# Altium integrated library Analog Devices Data Converters Analog-to-Digital Converters.IntLib: 2404 symbols (part 291 of 346)
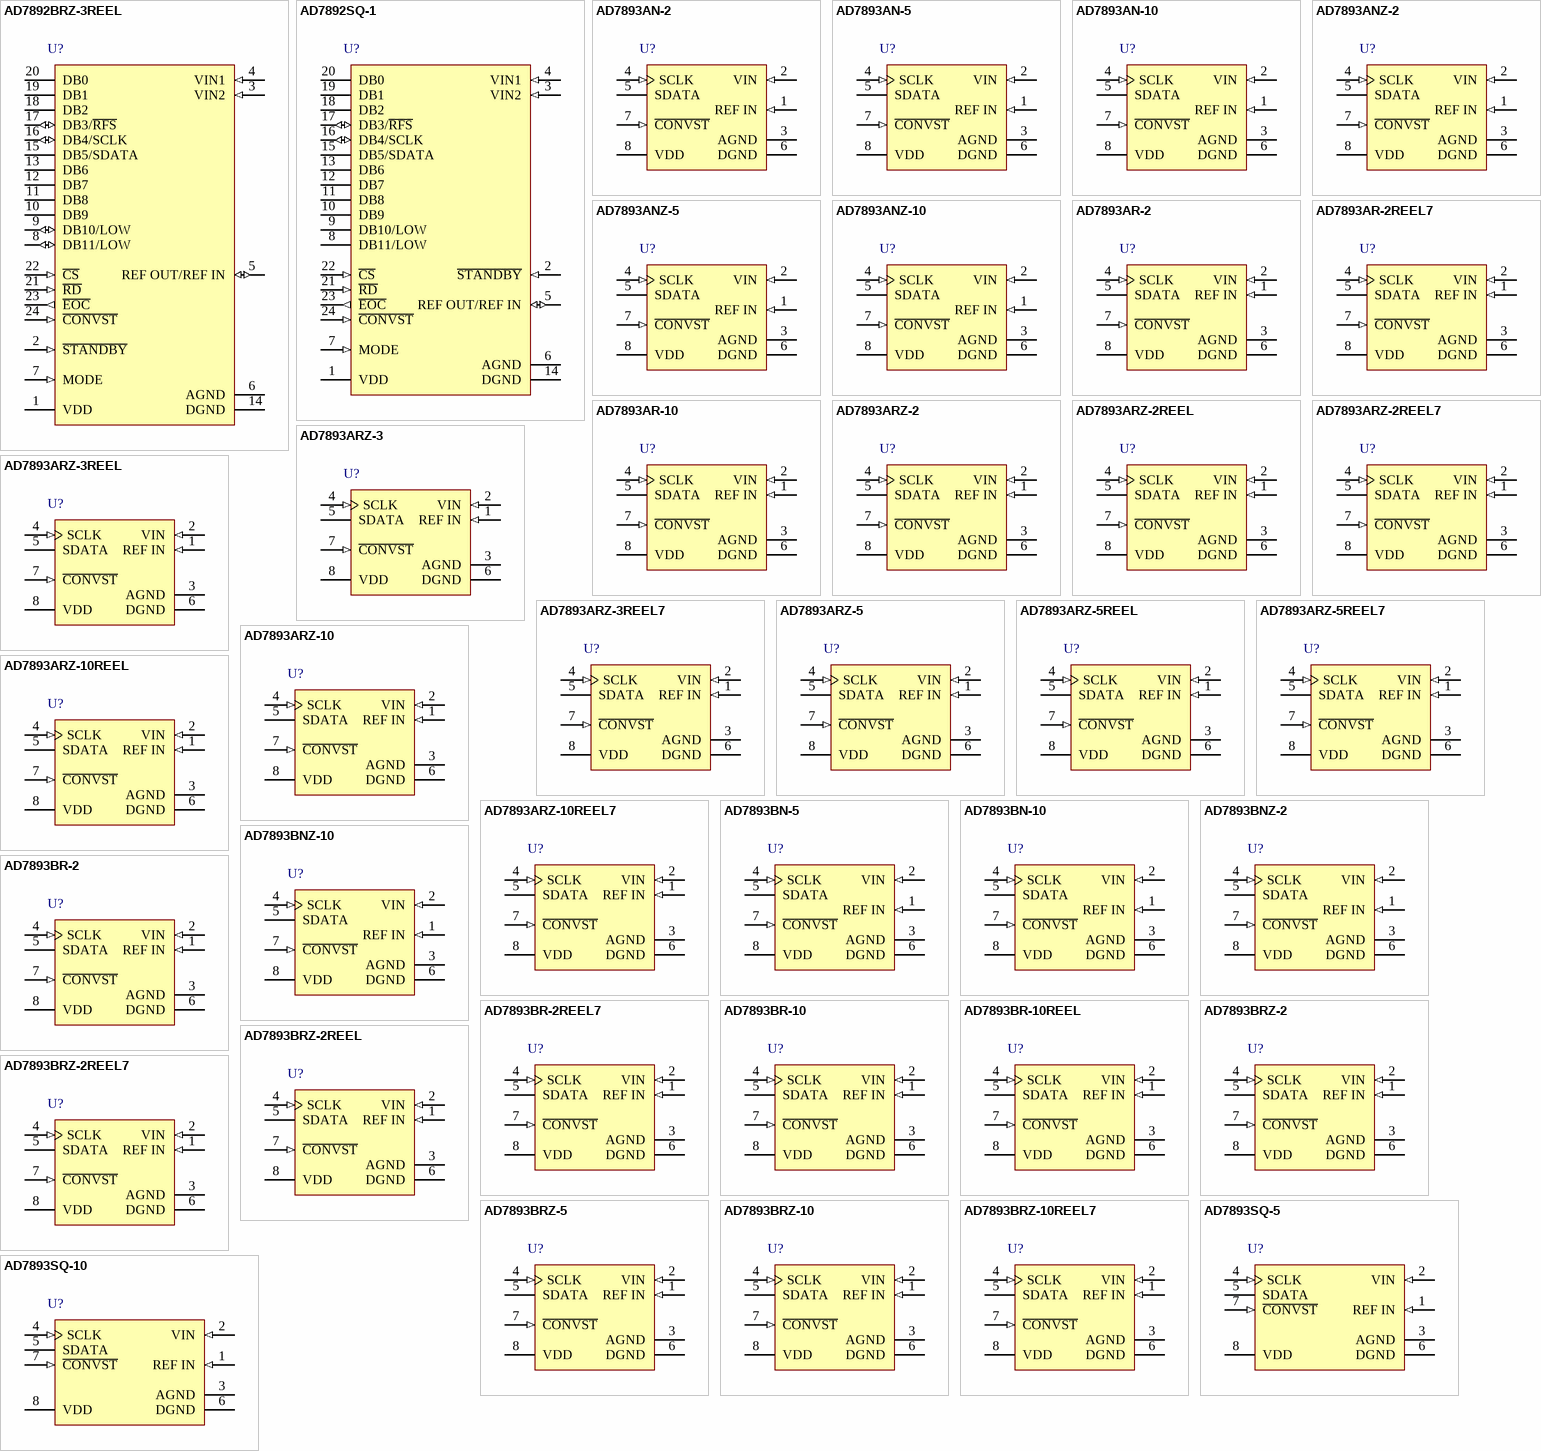
[diagram p311: symbols AD7892BRZ-3REEL to AD7893SQ-10]

## AD7893BN-5
designator U?
Single 12-Bit Analog-to-Digital Converter with Serial Interface, 6 us, LC2MOS, 117KSPS, -40 to +85 degC, N-8, Tube; Generic Part Number: AD7893; Manufacturer: Analog Devices; PartNumber: AD7893BN-5; Resolution (Bits): 12; Channels: 1; Throughput Rate (SPS): 117K; Interface: Ser; DatasheetVersion: Rev.E; PackageVersion: 070606-A; PackageReference: N-8; PackageDescription: 8-Lead Plastic Dual In-Line Package [PDIP] Narrow Body; Supplier 1: Mouser; Supplier Part Number 1: N/A; RoHS: N; Packing: Tube; Mounting Technology: Through-hole; Code_JEDEC: MS-001; ComponentLink1Description: Manufacturer URL; ComponentLink1URL: http://www.analog.com/en/index.html; ComponentLink2Description: Datasheet; ComponentLink2URL: http://www.analog.com/static/imported-files/data_sheets/AD7893.pdf; ComponentLink3Description: Package Specification; ComponentLink3URL: http://www.analog.com/static/imported-files/packages/PKG_PDF/PDIP(N)/N_8.pdf; ComponentLink4Description: Product URL; ComponentLink4URL: http://www.analog.com/en/analog-to-digital-converters/ad-converters/ad7893/products/product.html
footprint N-8 (DIP, 8-Leads, Row Spacing 7.62mm, Pitch 2.54mm, Body 9.6x6.6mm)
pins: 1 REF IN (in) "Voltage Reference Input. An external reference source should be connected to this pin to provide the reference voltage for the AD7893conversion process. The REF IN input is buffered on-chip. The nominal reference voltage (See Datasheet)", 2 VIN (in) "Analog Input Channel. The analog input range is +/-10 V (AD7893-10), +/-2.5 V (AD7893-3), 0 V to +5 V (AD7893-5) and 0 V to +2.5 V (AD7893-2).", 3 AGND (power) "Analog Ground. Ground reference for track/hold, comparator and DAC.", 4 SCLK (in) "Serial Clock Input. An external serial clock is applied to this input to obtain serial data from the AD7893. A new serial data bit is clocked out on the rising edge of this serial clock, and data is valid on the falling edge.(See Datasheet)", 5 SDATA (hiz) "Serial Data Output. Serial data from the AD7893 is provided at this output. The serial data is clocked out by the rising edge of SCLK and is valid on the falling edge of SCLK. Sixteen bits of serial data are provided with (See Datasheet)", 6 DGND (power) "Digital Ground. Ground reference for digital circuitry.", 7 ~{CONVST} (in) "Convert Start. Edge-triggered logic input. On the falling edge of this input, the serial clock counter is reset to zero. On the rising edge of this input, the track/hold goes into its hold mode and conversion is initiated.", 8 VDD (power) "Positive supply voltage, +5 V +/- 5%."

## AD7893BN-10
designator U?
Single 12-Bit Analog-to-Digital Converter with Serial Interface, 6 us, LC2MOS, 117KSPS, 0 to +70 degC, N-8, Tube; Generic Part Number: AD7893; Manufacturer: Analog Devices; PartNumber: AD7893BN-10; Resolution (Bits): 12; Channels: 1; Throughput Rate (SPS): 117K; Interface: Ser; DatasheetVersion: Rev.E; PackageVersion: 070606-A; PackageReference: N-8; PackageDescription: 8-Lead Plastic Dual In-Line Package [PDIP] Narrow Body; Supplier 1: Digi-Key; Supplier Part Number 1: AD7893BN-10-ND; Supplier 2: Mouser; Supplier Part Number 2: 584-AD7893BN-10; RoHS: N; Packing: Tube; Mounting Technology: Through-hole; Code_JEDEC: MS-001; ComponentLink1Description: Manufacturer URL; ComponentLink1URL: http://www.analog.com/en/index.html; ComponentLink2Description: Datasheet; ComponentLink2URL: http://www.analog.com/static/imported-files/data_sheets/AD7893.pdf; ComponentLink3Description: Package Specification; ComponentLink3URL: http://www.analog.com/static/imported-files/packages/PKG_PDF/PDIP(N)/N_8.pdf; ComponentLink4Description: Product URL; ComponentLink4URL: http://www.analog.com/en/analog-to-digital-converters/ad-converters/ad7893/products/product.html
footprint N-8 (DIP, 8-Leads, Row Spacing 7.62mm, Pitch 2.54mm, Body 9.6x6.6mm)
pins: 1 REF IN (in) "Voltage Reference Input. An external reference source should be connected to this pin to provide the reference voltage for the AD7893conversion process. The REF IN input is buffered on-chip. The nominal reference voltage (See Datasheet)", 2 VIN (in) "Analog Input Channel. The analog input range is +/-10 V (AD7893-10), +/-2.5 V (AD7893-3), 0 V to +5 V (AD7893-5) and 0 V to +2.5 V (AD7893-2).", 3 AGND (power) "Analog Ground. Ground reference for track/hold, comparator and DAC.", 4 SCLK (in) "Serial Clock Input. An external serial clock is applied to this input to obtain serial data from the AD7893. A new serial data bit is clocked out on the rising edge of this serial clock, and data is valid on the falling edge.(See Datasheet)", 5 SDATA (hiz) "Serial Data Output. Serial data from the AD7893 is provided at this output. The serial data is clocked out by the rising edge of SCLK and is valid on the falling edge of SCLK. Sixteen bits of serial data are provided with (See Datasheet)", 6 DGND (power) "Digital Ground. Ground reference for digital circuitry.", 7 ~{CONVST} (in) "Convert Start. Edge-triggered logic input. On the falling edge of this input, the serial clock counter is reset to zero. On the rising edge of this input, the track/hold goes into its hold mode and conversion is initiated.", 8 VDD (power) "Positive supply voltage, +5 V +/- 5%."

## AD7893BNZ-2
designator U?
Single 12-Bit Analog-to-Digital Converter with Serial Interface, 6 us, LC2MOS, 117KSPS, -40 to +85 degC, N-8, Pb-Free, Tube; Generic Part Number: AD7893; Manufacturer: Analog Devices; PartNumber: AD7893BNZ-2; Resolution (Bits): 12; Channels: 1; Throughput Rate (SPS): 117K; Interface: Ser; DatasheetVersion: Rev.E; PackageVersion: 070606-A; PackageReference: N-8; PackageDescription: 8-Lead Plastic Dual In-Line Package [PDIP] Narrow Body; Supplier 1: Digi-Key; Supplier Part Number 1: AD7893BNZ-2-ND; Supplier 2: Mouser; Supplier Part Number 2: 584-AD7893BNZ-2; RoHS: Y; Packing: Tube; Mounting Technology: Through-hole; Code_JEDEC: MS-001; ComponentLink1Description: Manufacturer URL; ComponentLink1URL: http://www.analog.com/en/index.html; ComponentLink2Description: Datasheet; ComponentLink2URL: http://www.analog.com/static/imported-files/data_sheets/AD7893.pdf; ComponentLink3Description: Package Specification; ComponentLink3URL: http://www.analog.com/static/imported-files/packages/PKG_PDF/PDIP(N)/N_8.pdf; ComponentLink4Description: Product URL; ComponentLink4URL: http://www.analog.com/en/analog-to-digital-converters/ad-converters/ad7893/products/product.html
footprint N-8 (DIP, 8-Leads, Row Spacing 7.62mm, Pitch 2.54mm, Body 9.6x6.6mm)
pins: 1 REF IN (in) "Voltage Reference Input. An external reference source should be connected to this pin to provide the reference voltage for the AD7893conversion process. The REF IN input is buffered on-chip. The nominal reference voltage (See Datasheet)", 2 VIN (in) "Analog Input Channel. The analog input range is +/-10 V (AD7893-10), +/-2.5 V (AD7893-3), 0 V to +5 V (AD7893-5) and 0 V to +2.5 V (AD7893-2).", 3 AGND (power) "Analog Ground. Ground reference for track/hold, comparator and DAC.", 4 SCLK (in) "Serial Clock Input. An external serial clock is applied to this input to obtain serial data from the AD7893. A new serial data bit is clocked out on the rising edge of this serial clock, and data is valid on the falling edge.(See Datasheet)", 5 SDATA (hiz) "Serial Data Output. Serial data from the AD7893 is provided at this output. The serial data is clocked out by the rising edge of SCLK and is valid on the falling edge of SCLK. Sixteen bits of serial data are provided with (See Datasheet)", 6 DGND (power) "Digital Ground. Ground reference for digital circuitry.", 7 ~{CONVST} (in) "Convert Start. Edge-triggered logic input. On the falling edge of this input, the serial clock counter is reset to zero. On the rising edge of this input, the track/hold goes into its hold mode and conversion is initiated.", 8 VDD (power) "Positive supply voltage, +5 V +/- 5%."

## AD7893BNZ-10
designator U?
Single 12-Bit Analog-to-Digital Converter with Serial Interface, 6 us, LC2MOS, 117KSPS, 0 to +70 degC, N-8, Pb-Free, Tube; Generic Part Number: AD7893; Manufacturer: Analog Devices; PartNumber: AD7893BNZ-10; Resolution (Bits): 12; Channels: 1; Throughput Rate (SPS): 117K; Interface: Ser; DatasheetVersion: Rev.E; PackageVersion: 070606-A; PackageReference: N-8; PackageDescription: 8-Lead Plastic Dual In-Line Package [PDIP] Narrow Body; Supplier 1: Digi-Key; Supplier Part Number 1: AD7893BNZ-10-ND; Supplier 2: Mouser; Supplier Part Number 2: 584-AD7893BNZ-10; RoHS: Y; Packing: Tube; Mounting Technology: Through-hole; Code_JEDEC: MS-001; ComponentLink1Description: Manufacturer URL; ComponentLink1URL: http://www.analog.com/en/index.html; ComponentLink2Description: Datasheet; ComponentLink2URL: http://www.analog.com/static/imported-files/data_sheets/AD7893.pdf; ComponentLink3Description: Package Specification; ComponentLink3URL: http://www.analog.com/static/imported-files/packages/PKG_PDF/PDIP(N)/N_8.pdf; ComponentLink4Description: Product URL; ComponentLink4URL: http://www.analog.com/en/analog-to-digital-converters/ad-converters/ad7893/products/product.html
footprint N-8 (DIP, 8-Leads, Row Spacing 7.62mm, Pitch 2.54mm, Body 9.6x6.6mm)
pins: 1 REF IN (in) "Voltage Reference Input. An external reference source should be connected to this pin to provide the reference voltage for the AD7893conversion process. The REF IN input is buffered on-chip. The nominal reference voltage (See Datasheet)", 2 VIN (in) "Analog Input Channel. The analog input range is +/-10 V (AD7893-10), +/-2.5 V (AD7893-3), 0 V to +5 V (AD7893-5) and 0 V to +2.5 V (AD7893-2).", 3 AGND (power) "Analog Ground. Ground reference for track/hold, comparator and DAC.", 4 SCLK (in) "Serial Clock Input. An external serial clock is applied to this input to obtain serial data from the AD7893. A new serial data bit is clocked out on the rising edge of this serial clock, and data is valid on the falling edge.(See Datasheet)", 5 SDATA (hiz) "Serial Data Output. Serial data from the AD7893 is provided at this output. The serial data is clocked out by the rising edge of SCLK and is valid on the falling edge of SCLK. Sixteen bits of serial data are provided with (See Datasheet)", 6 DGND (power) "Digital Ground. Ground reference for digital circuitry.", 7 ~{CONVST} (in) "Convert Start. Edge-triggered logic input. On the falling edge of this input, the serial clock counter is reset to zero. On the rising edge of this input, the track/hold goes into its hold mode and conversion is initiated.", 8 VDD (power) "Positive supply voltage, +5 V +/- 5%."

## AD7893BR-2
designator U?
Single 12-Bit Analog-to-Digital Converter with Serial Interface, 6 us, LC2MOS, 117KSPS, 0 to +70 degC, R-8, Tube; Generic Part Number: AD7893; Manufacturer: Analog Devices; PartNumber: AD7893BR-2; Resolution (Bits): 12; Channels: 1; Throughput Rate (SPS): 117K; Interface: Ser; DatasheetVersion: Rev.E; PackageVersion: 060506-A; PackageReference: R-8; PackageDescription: 8-Lead Standard Small Outline Package [SOIC_N] Narrow Body; Supplier 1: Digi-Key; Supplier Part Number 1: AD7893BR-2-ND; Supplier 2: Mouser; Supplier Part Number 2: 584-AD7893BR-2; RoHS: N; Packing: Tube; Mounting Technology: Surface Mount; Code_JEDEC: MS-012-AA; Code_IPC: SOIC127P600-8; ComponentLink1Description: Manufacturer URL; ComponentLink1URL: http://www.analog.com/en/index.html; ComponentLink2Description: Datasheet; ComponentLink2URL: http://www.analog.com/static/imported-files/data_sheets/AD7893.pdf; ComponentLink3Description: Package Specification; ComponentLink3URL: http://www.analog.com/static/imported-files/packages/PKG_PDF/SOIC_Narrow%20(R)/R_8.pdf; ComponentLink4Description: Product URL; ComponentLink4URL: http://www.analog.com/en/analog-to-digital-converters/ad-converters/ad7893/products/product.html
footprint R-8_N (SOIC, 8-Leads, Body 4.9x3.9mm, Pitch 1.27mm, IPC Medium Density)
footprint R-8_L (SOIC, 8-Leads, Body 4.9x3.9mm, Pitch 1.27mm, IPC High Density)
footprint R-8_M (SOIC, 8-Leads, Body 4.9x3.9mm, Pitch 1.27mm, IPC Low Density)
pins: 1 REF IN (in) "Voltage Reference Input. An external reference source should be connected to this pin to provide the reference voltage for the AD7893’s conversion process. The REF IN input is buffered on-chip. The nominal reference voltage (See Datasheet)", 2 VIN (in) "Analog Input Channel. The analog input range is +/-10 V (AD7893-10), +/-2.5 V (AD7893-3), 0 V to +5 V (AD7893-5) and 0 V to +2.5 V (AD7893-2).", 3 AGND (power) "Analog Ground. Ground reference for track/hold, comparator and DAC", 4 SCLK (in) "Serial Clock Input. An external serial clock is applied to this input to obtain serial data from the AD7893. A new serial data bit is clocked out on the rising edge of this serial clock, and data is valid on the falling edge.(See Datasheet)", 5 SDATA (hiz) "Serial Data Output. Serial data from the AD7893 is provided at this output. The serial data is clocked out by the rising edge of SCLK and is valid on the falling edge of SCLK. Sixteen bits of serial data are provided with (See Datasheet)", 6 DGND (power) "Digital Ground. Ground reference for digital circuitry.", 7 ~{CONVST} (in) "Convert Start. Edge-triggered logic input. On the falling edge of this input, the serial clock counter is reset to zero. On the rising edge of this input, the track/hold goes into its hold mode and conversion is initiated.", 8 VDD (power) "Positive supply voltage, +5 V +/- 5%"

## AD7893BR-2REEL7
designator U?
Single 12-Bit Analog-to-Digital Converter with Serial Interface, 6 us, LC2MOS, 117KSPS, 0 to +70 degC, R-8, Reel; Generic Part Number: AD7893; Manufacturer: Analog Devices; PartNumber: AD7893BR-2REEL7; Resolution (Bits): 12; Channels: 1; Throughput Rate (SPS): 117K; Interface: Ser; DatasheetVersion: Rev.E; PackageVersion: 060506-A; PackageReference: R-8; PackageDescription: 8-Lead Standard Small Outline Package [SOIC_N] Narrow Body; Supplier 1: Digi-Key; Supplier Part Number 1: AD7893BR-2REEL7-ND; Supplier 2: Mouser; Supplier Part Number 2: 584-AD7893BR-2R7; RoHS: N; Packing: Reel; Mounting Technology: Surface Mount; Code_JEDEC: MS-012-AA; Code_IPC: SOIC127P600-8; ComponentLink1Description: Manufacturer URL; ComponentLink1URL: http://www.analog.com/en/index.html; ComponentLink2Description: Datasheet; ComponentLink2URL: http://www.analog.com/static/imported-files/data_sheets/AD7893.pdf; ComponentLink3Description: Package Specification; ComponentLink3URL: http://www.analog.com/static/imported-files/packages/PKG_PDF/SOIC_Narrow%20(R)/R_8.pdf; ComponentLink4Description: Product URL; ComponentLink4URL: http://www.analog.com/en/analog-to-digital-converters/ad-converters/ad7893/products/product.html
footprint R-8_N (SOIC, 8-Leads, Body 4.9x3.9mm, Pitch 1.27mm, IPC Medium Density)
footprint R-8_L (SOIC, 8-Leads, Body 4.9x3.9mm, Pitch 1.27mm, IPC High Density)
footprint R-8_M (SOIC, 8-Leads, Body 4.9x3.9mm, Pitch 1.27mm, IPC Low Density)
pins: 1 REF IN (in) "Voltage Reference Input. An external reference source should be connected to this pin to provide the reference voltage for the AD7893’s conversion process. The REF IN input is buffered on-chip. The nominal reference voltage (See Datasheet)", 2 VIN (in) "Analog Input Channel. The analog input range is +/-10 V (AD7893-10), +/-2.5 V (AD7893-3), 0 V to +5 V (AD7893-5) and 0 V to +2.5 V (AD7893-2).", 3 AGND (power) "Analog Ground. Ground reference for track/hold, comparator and DAC", 4 SCLK (in) "Serial Clock Input. An external serial clock is applied to this input to obtain serial data from the AD7893. A new serial data bit is clocked out on the rising edge of this serial clock, and data is valid on the falling edge.(See Datasheet)", 5 SDATA (hiz) "Serial Data Output. Serial data from the AD7893 is provided at this output. The serial data is clocked out by the rising edge of SCLK and is valid on the falling edge of SCLK. Sixteen bits of serial data are provided with (See Datasheet)", 6 DGND (power) "Digital Ground. Ground reference for digital circuitry.", 7 ~{CONVST} (in) "Convert Start. Edge-triggered logic input. On the falling edge of this input, the serial clock counter is reset to zero. On the rising edge of this input, the track/hold goes into its hold mode and conversion is initiated.", 8 VDD (power) "Positive supply voltage, +5 V +/- 5%"

## AD7893BR-10
designator U?
Single 12-Bit Analog-to-Digital Converter with Serial Interface, 6 us, LC2MOS, 117KSPS, 0 to +70 degC, R-8, Tube; Generic Part Number: AD7893; Manufacturer: Analog Devices; PartNumber: AD7893BR-10; Resolution (Bits): 12; Channels: 1; Throughput Rate (SPS): 117K; Interface: Ser; DatasheetVersion: Rev.E; PackageVersion: 060506-A; PackageReference: R-8; PackageDescription: 8-Lead Standard Small Outline Package [SOIC_N] Narrow Body; Supplier 1: Digi-Key; Supplier Part Number 1: AD7893BR-10-ND; Supplier 2: Newark; Supplier Part Number 2: 34C4936; Supplier 3: Mouser; Supplier Part Number 3: 584-AD7893BR-10; RoHS: N; Packing: Tube; Mounting Technology: Surface Mount; Code_JEDEC: MS-012-AA; Code_IPC: SOIC127P600-8; ComponentLink1Description: Manufacturer URL; ComponentLink1URL: http://www.analog.com/en/index.html; ComponentLink2Description: Datasheet; ComponentLink2URL: http://www.analog.com/static/imported-files/data_sheets/AD7893.pdf; ComponentLink3Description: Package Specification; ComponentLink3URL: http://www.analog.com/static/imported-files/packages/PKG_PDF/SOIC_Narrow%20(R)/R_8.pdf; ComponentLink4Description: Product URL; ComponentLink4URL: http://www.analog.com/en/analog-to-digital-converters/ad-converters/ad7893/products/product.html
footprint R-8_N (SOIC, 8-Leads, Body 4.9x3.9mm, Pitch 1.27mm, IPC Medium Density)
footprint R-8_L (SOIC, 8-Leads, Body 4.9x3.9mm, Pitch 1.27mm, IPC High Density)
footprint R-8_M (SOIC, 8-Leads, Body 4.9x3.9mm, Pitch 1.27mm, IPC Low Density)
pins: 1 REF IN (in) "Voltage Reference Input. An external reference source should be connected to this pin to provide the reference voltage for the AD7893’s conversion process. The REF IN input is buffered on-chip. The nominal reference voltage (See Datasheet)", 2 VIN (in) "Analog Input Channel. The analog input range is +/-10 V (AD7893-10), +/-2.5 V (AD7893-3), 0 V to +5 V (AD7893-5) and 0 V to +2.5 V (AD7893-2).", 3 AGND (power) "Analog Ground. Ground reference for track/hold, comparator and DAC", 4 SCLK (in) "Serial Clock Input. An external serial clock is applied to this input to obtain serial data from the AD7893. A new serial data bit is clocked out on the rising edge of this serial clock, and data is valid on the falling edge.(See Datasheet)", 5 SDATA (hiz) "Serial Data Output. Serial data from the AD7893 is provided at this output. The serial data is clocked out by the rising edge of SCLK and is valid on the falling edge of SCLK. Sixteen bits of serial data are provided with (See Datasheet)", 6 DGND (power) "Digital Ground. Ground reference for digital circuitry.", 7 ~{CONVST} (in) "Convert Start. Edge-triggered logic input. On the falling edge of this input, the serial clock counter is reset to zero. On the rising edge of this input, the track/hold goes into its hold mode and conversion is initiated.", 8 VDD (power) "Positive supply voltage, +5 V +/- 5%"

## AD7893BR-10REEL
designator U?
Single 12-Bit Analog-to-Digital Converter with Serial Interface, 6 us, LC2MOS, 117KSPS, 0 to +70 degC, R-8, Reel; Generic Part Number: AD7893; Manufacturer: Analog Devices; PartNumber: AD7893BR-10REEL; Resolution (Bits): 12; Channels: 1; Throughput Rate (SPS): 117K; Interface: Ser; DatasheetVersion: Rev.E; PackageVersion: 060506-A; PackageReference: R-8; PackageDescription: 8-Lead Standard Small Outline Package [SOIC_N] Narrow Body; Supplier 1: Digi-Key; Supplier Part Number 1: AD7893BR-10REEL-ND; Supplier 2: Mouser; Supplier Part Number 2: 584-AD7893BR-10R; RoHS: N; Packing: Reel; Mounting Technology: Surface Mount; Code_JEDEC: MS-012-AA; Code_IPC: SOIC127P600-8; ComponentLink1Description: Manufacturer URL; ComponentLink1URL: http://www.analog.com/en/index.html; ComponentLink2Description: Datasheet; ComponentLink2URL: http://www.analog.com/static/imported-files/data_sheets/AD7893.pdf; ComponentLink3Description: Package Specification; ComponentLink3URL: http://www.analog.com/static/imported-files/packages/PKG_PDF/SOIC_Narrow%20(R)/R_8.pdf; ComponentLink4Description: Product URL; ComponentLink4URL: http://www.analog.com/en/analog-to-digital-converters/ad-converters/ad7893/products/product.html
footprint R-8_N (SOIC, 8-Leads, Body 4.9x3.9mm, Pitch 1.27mm, IPC Medium Density)
footprint R-8_L (SOIC, 8-Leads, Body 4.9x3.9mm, Pitch 1.27mm, IPC High Density)
footprint R-8_M (SOIC, 8-Leads, Body 4.9x3.9mm, Pitch 1.27mm, IPC Low Density)
pins: 1 REF IN (in) "Voltage Reference Input. An external reference source should be connected to this pin to provide the reference voltage for the AD7893’s conversion process. The REF IN input is buffered on-chip. The nominal reference voltage (See Datasheet)", 2 VIN (in) "Analog Input Channel. The analog input range is +/-10 V (AD7893-10), +/-2.5 V (AD7893-3), 0 V to +5 V (AD7893-5) and 0 V to +2.5 V (AD7893-2).", 3 AGND (power) "Analog Ground. Ground reference for track/hold, comparator and DAC", 4 SCLK (in) "Serial Clock Input. An external serial clock is applied to this input to obtain serial data from the AD7893. A new serial data bit is clocked out on the rising edge of this serial clock, and data is valid on the falling edge.(See Datasheet)", 5 SDATA (hiz) "Serial Data Output. Serial data from the AD7893 is provided at this output. The serial data is clocked out by the rising edge of SCLK and is valid on the falling edge of SCLK. Sixteen bits of serial data are provided with (See Datasheet)", 6 DGND (power) "Digital Ground. Ground reference for digital circuitry.", 7 ~{CONVST} (in) "Convert Start. Edge-triggered logic input. On the falling edge of this input, the serial clock counter is reset to zero. On the rising edge of this input, the track/hold goes into its hold mode and conversion is initiated.", 8 VDD (power) "Positive supply voltage, +5 V +/- 5%"

## AD7893BRZ-2
designator U?
Single 12-Bit Analog-to-Digital Converter with Serial Interface, 6 us, LC2MOS, 117KSPS, 0 to +70 degC, R-8, Pb-Free, Tube; Generic Part Number: AD7893; Manufacturer: Analog Devices; PartNumber: AD7893BRZ-2; Resolution (Bits): 12; Channels: 1; Throughput Rate (SPS): 117K; Interface: Ser; DatasheetVersion: Rev.E; PackageVersion: 060506-A; PackageReference: R-8; PackageDescription: 8-Lead Standard Small Outline Package [SOIC_N] Narrow Body; Supplier 1: Digi-Key; Supplier Part Number 1: AD7893BRZ-2-ND; Supplier 2: Mouser; Supplier Part Number 2: 584-AD7893BRZ-2; RoHS: Y; Packing: Tube; Mounting Technology: Surface Mount; Code_JEDEC: MS-012-AA; Code_IPC: SOIC127P600-8; ComponentLink1Description: Manufacturer URL; ComponentLink1URL: http://www.analog.com/en/index.html; ComponentLink2Description: Datasheet; ComponentLink2URL: http://www.analog.com/static/imported-files/data_sheets/AD7893.pdf; ComponentLink3Description: Package Specification; ComponentLink3URL: http://www.analog.com/static/imported-files/packages/PKG_PDF/SOIC_Narrow%20(R)/R_8.pdf; ComponentLink4Description: Product URL; ComponentLink4URL: http://www.analog.com/en/analog-to-digital-converters/ad-converters/ad7893/products/product.html
footprint R-8_N (SOIC, 8-Leads, Body 4.9x3.9mm, Pitch 1.27mm, IPC Medium Density)
footprint R-8_L (SOIC, 8-Leads, Body 4.9x3.9mm, Pitch 1.27mm, IPC High Density)
footprint R-8_M (SOIC, 8-Leads, Body 4.9x3.9mm, Pitch 1.27mm, IPC Low Density)
pins: 1 REF IN (in) "Voltage Reference Input. An external reference source should be connected to this pin to provide the reference voltage for the AD7893’s conversion process. The REF IN input is buffered on-chip. The nominal reference voltage (See Datasheet)", 2 VIN (in) "Analog Input Channel. The analog input range is +/-10 V (AD7893-10), +/-2.5 V (AD7893-3), 0 V to +5 V (AD7893-5) and 0 V to +2.5 V (AD7893-2).", 3 AGND (power) "Analog Ground. Ground reference for track/hold, comparator and DAC", 4 SCLK (in) "Serial Clock Input. An external serial clock is applied to this input to obtain serial data from the AD7893. A new serial data bit is clocked out on the rising edge of this serial clock, and data is valid on the falling edge.(See Datasheet)", 5 SDATA (hiz) "Serial Data Output. Serial data from the AD7893 is provided at this output. The serial data is clocked out by the rising edge of SCLK and is valid on the falling edge of SCLK. Sixteen bits of serial data are provided with (See Datasheet)", 6 DGND (power) "Digital Ground. Ground reference for digital circuitry.", 7 ~{CONVST} (in) "Convert Start. Edge-triggered logic input. On the falling edge of this input, the serial clock counter is reset to zero. On the rising edge of this input, the track/hold goes into its hold mode and conversion is initiated.", 8 VDD (power) "Positive supply voltage, +5 V +/- 5%"

## AD7893BRZ-2REEL
designator U?
Single 12-Bit Analog-to-Digital Converter with Serial Interface, 6 us, LC2MOS, 117KSPS, 0 to +70 degC, R-8, Pb-Free, Reel; Generic Part Number: AD7893; Manufacturer: Analog Devices; PartNumber: AD7893BRZ-2REEL; Resolution (Bits): 12; Channels: 1; Throughput Rate (SPS): 117K; Interface: Ser; DatasheetVersion: Rev.E; PackageVersion: 060506-A; PackageReference: R-8; PackageDescription: 8-Lead Standard Small Outline Package [SOIC_N] Narrow Body; Supplier 1: Digi-Key; Supplier Part Number 1: AD7893BRZ-2REEL-ND; Supplier 2: Mouser; Supplier Part Number 2: 584-AD7893BRZ-2R; RoHS: Y; Packing: Reel; Mounting Technology: Surface Mount; Code_JEDEC: MS-012-AA; Code_IPC: SOIC127P600-8; ComponentLink1Description: Manufacturer URL; ComponentLink1URL: http://www.analog.com/en/index.html; ComponentLink2Description: Datasheet; ComponentLink2URL: http://www.analog.com/static/imported-files/data_sheets/AD7893.pdf; ComponentLink3Description: Package Specification; ComponentLink3URL: http://www.analog.com/static/imported-files/packages/PKG_PDF/SOIC_Narrow%20(R)/R_8.pdf; ComponentLink4Description: Product URL; ComponentLink4URL: http://www.analog.com/en/analog-to-digital-converters/ad-converters/ad7893/products/product.html
footprint R-8_N (SOIC, 8-Leads, Body 4.9x3.9mm, Pitch 1.27mm, IPC Medium Density)
footprint R-8_L (SOIC, 8-Leads, Body 4.9x3.9mm, Pitch 1.27mm, IPC High Density)
footprint R-8_M (SOIC, 8-Leads, Body 4.9x3.9mm, Pitch 1.27mm, IPC Low Density)
pins: 1 REF IN (in) "Voltage Reference Input. An external reference source should be connected to this pin to provide the reference voltage for the AD7893’s conversion process. The REF IN input is buffered on-chip. The nominal reference voltage (See Datasheet)", 2 VIN (in) "Analog Input Channel. The analog input range is +/-10 V (AD7893-10), +/-2.5 V (AD7893-3), 0 V to +5 V (AD7893-5) and 0 V to +2.5 V (AD7893-2).", 3 AGND (power) "Analog Ground. Ground reference for track/hold, comparator and DAC", 4 SCLK (in) "Serial Clock Input. An external serial clock is applied to this input to obtain serial data from the AD7893. A new serial data bit is clocked out on the rising edge of this serial clock, and data is valid on the falling edge.(See Datasheet)", 5 SDATA (hiz) "Serial Data Output. Serial data from the AD7893 is provided at this output. The serial data is clocked out by the rising edge of SCLK and is valid on the falling edge of SCLK. Sixteen bits of serial data are provided with (See Datasheet)", 6 DGND (power) "Digital Ground. Ground reference for digital circuitry.", 7 ~{CONVST} (in) "Convert Start. Edge-triggered logic input. On the falling edge of this input, the serial clock counter is reset to zero. On the rising edge of this input, the track/hold goes into its hold mode and conversion is initiated.", 8 VDD (power) "Positive supply voltage, +5 V +/- 5%"

## AD7893BRZ-2REEL7
designator U?
Single 12-Bit Analog-to-Digital Converter with Serial Interface, 6 us, LC2MOS, 117KSPS, 0 to +70 degC, R-8, Pb-Free, Reel; Generic Part Number: AD7893; Manufacturer: Analog Devices; PartNumber: AD7893BRZ-2REEL7; Resolution (Bits): 12; Channels: 1; Throughput Rate (SPS): 117K; Interface: Ser; DatasheetVersion: Rev.E; PackageVersion: 060506-A; PackageReference: R-8; PackageDescription: 8-Lead Standard Small Outline Package [SOIC_N] Narrow Body; Supplier 1: Digi-Key; Supplier Part Number 1: AD7893BRZ-2REEL7-ND; RoHS: Y; Packing: Reel; Mounting Technology: Surface Mount; Code_JEDEC: MS-012-AA; Code_IPC: SOIC127P600-8; ComponentLink1Description: Manufacturer URL; ComponentLink1URL: http://www.analog.com/en/index.html; ComponentLink2Description: Datasheet; ComponentLink2URL: http://www.analog.com/static/imported-files/data_sheets/AD7893.pdf; ComponentLink3Description: Package Specification; ComponentLink3URL: http://www.analog.com/static/imported-files/packages/PKG_PDF/SOIC_Narrow%20(R)/R_8.pdf; ComponentLink4Description: Product URL; ComponentLink4URL: http://www.analog.com/en/analog-to-digital-converters/ad-converters/ad7893/products/product.html
footprint R-8_N (SOIC, 8-Leads, Body 4.9x3.9mm, Pitch 1.27mm, IPC Medium Density)
footprint R-8_L (SOIC, 8-Leads, Body 4.9x3.9mm, Pitch 1.27mm, IPC High Density)
footprint R-8_M (SOIC, 8-Leads, Body 4.9x3.9mm, Pitch 1.27mm, IPC Low Density)
pins: 1 REF IN (in) "Voltage Reference Input. An external reference source should be connected to this pin to provide the reference voltage for the AD7893’s conversion process. The REF IN input is buffered on-chip. The nominal reference voltage (See Datasheet)", 2 VIN (in) "Analog Input Channel. The analog input range is +/-10 V (AD7893-10), +/-2.5 V (AD7893-3), 0 V to +5 V (AD7893-5) and 0 V to +2.5 V (AD7893-2).", 3 AGND (power) "Analog Ground. Ground reference for track/hold, comparator and DAC", 4 SCLK (in) "Serial Clock Input. An external serial clock is applied to this input to obtain serial data from the AD7893. A new serial data bit is clocked out on the rising edge of this serial clock, and data is valid on the falling edge.(See Datasheet)", 5 SDATA (hiz) "Serial Data Output. Serial data from the AD7893 is provided at this output. The serial data is clocked out by the rising edge of SCLK and is valid on the falling edge of SCLK. Sixteen bits of serial data are provided with (See Datasheet)", 6 DGND (power) "Digital Ground. Ground reference for digital circuitry.", 7 ~{CONVST} (in) "Convert Start. Edge-triggered logic input. On the falling edge of this input, the serial clock counter is reset to zero. On the rising edge of this input, the track/hold goes into its hold mode and conversion is initiated.", 8 VDD (power) "Positive supply voltage, +5 V +/- 5%"

## AD7893BRZ-5
designator U?
Single 12-Bit Analog-to-Digital Converter with Serial Interface, 6 us, LC2MOS, 117KSPS, 0 to +70 degC, R-8, Pb-Free, Tube; Generic Part Number: AD7893; Manufacturer: Analog Devices; PartNumber: AD7893BRZ-5; Resolution (Bits): 12; Channels: 1; Throughput Rate (SPS): 117K; Interface: Ser; DatasheetVersion: Rev.E; PackageVersion: 060506-A; PackageReference: R-8; PackageDescription: 8-Lead Standard Small Outline Package [SOIC_N] Narrow Body; Supplier 1: Digi-Key; Supplier Part Number 1: AD7893BRZ-5-ND; Supplier 2: Mouser; Supplier Part Number 2: 584-AD7893BRZ-5; RoHS: Y; Packing: Tube; Mounting Technology: Surface Mount; Code_JEDEC: MS-012-AA; Code_IPC: SOIC127P600-8; ComponentLink1Description: Manufacturer URL; ComponentLink1URL: http://www.analog.com/en/index.html; ComponentLink2Description: Datasheet; ComponentLink2URL: http://www.analog.com/static/imported-files/data_sheets/AD7893.pdf; ComponentLink3Description: Package Specification; ComponentLink3URL: http://www.analog.com/static/imported-files/packages/PKG_PDF/SOIC_Narrow%20(R)/R_8.pdf; ComponentLink4Description: Product URL; ComponentLink4URL: http://www.analog.com/en/analog-to-digital-converters/ad-converters/ad7893/products/product.html
footprint R-8_N (SOIC, 8-Leads, Body 4.9x3.9mm, Pitch 1.27mm, IPC Medium Density)
footprint R-8_L (SOIC, 8-Leads, Body 4.9x3.9mm, Pitch 1.27mm, IPC High Density)
footprint R-8_M (SOIC, 8-Leads, Body 4.9x3.9mm, Pitch 1.27mm, IPC Low Density)
pins: 1 REF IN (in) "Voltage Reference Input. An external reference source should be connected to this pin to provide the reference voltage for the AD7893’s conversion process. The REF IN input is buffered on-chip. The nominal reference voltage (See Datasheet)", 2 VIN (in) "Analog Input Channel. The analog input range is +/-10 V (AD7893-10), +/-2.5 V (AD7893-3), 0 V to +5 V (AD7893-5) and 0 V to +2.5 V (AD7893-2).", 3 AGND (power) "Analog Ground. Ground reference for track/hold, comparator and DAC", 4 SCLK (in) "Serial Clock Input. An external serial clock is applied to this input to obtain serial data from the AD7893. A new serial data bit is clocked out on the rising edge of this serial clock, and data is valid on the falling edge.(See Datasheet)", 5 SDATA (hiz) "Serial Data Output. Serial data from the AD7893 is provided at this output. The serial data is clocked out by the rising edge of SCLK and is valid on the falling edge of SCLK. Sixteen bits of serial data are provided with (See Datasheet)", 6 DGND (power) "Digital Ground. Ground reference for digital circuitry.", 7 ~{CONVST} (in) "Convert Start. Edge-triggered logic input. On the falling edge of this input, the serial clock counter is reset to zero. On the rising edge of this input, the track/hold goes into its hold mode and conversion is initiated.", 8 VDD (power) "Positive supply voltage, +5 V +/- 5%"

## AD7893BRZ-10
designator U?
Single 12-Bit Analog-to-Digital Converter with Serial Interface, 6 us, LC2MOS, 117KSPS, 0 to +70 degC, R-8, Pb-Free, Tube; Generic Part Number: AD7893; Manufacturer: Analog Devices; PartNumber: AD7893BRZ-10; Resolution (Bits): 12; Channels: 1; Throughput Rate (SPS): 117K; Interface: Ser; DatasheetVersion: Rev.E; PackageVersion: 060506-A; PackageReference: R-8; PackageDescription: 8-Lead Standard Small Outline Package [SOIC_N] Narrow Body; Supplier 1: Digi-Key; Supplier Part Number 1: AD7893BRZ-10-ND; Supplier 2: Mouser; Supplier Part Number 2: 584-AD7893BRZ-10; RoHS: Y; Packing: Tube; Mounting Technology: Surface Mount; Code_JEDEC: MS-012-AA; Code_IPC: SOIC127P600-8; ComponentLink1Description: Manufacturer URL; ComponentLink1URL: http://www.analog.com/en/index.html; ComponentLink2Description: Datasheet; ComponentLink2URL: http://www.analog.com/static/imported-files/data_sheets/AD7893.pdf; ComponentLink3Description: Package Specification; ComponentLink3URL: http://www.analog.com/static/imported-files/packages/PKG_PDF/SOIC_Narrow%20(R)/R_8.pdf; ComponentLink4Description: Product URL; ComponentLink4URL: http://www.analog.com/en/analog-to-digital-converters/ad-converters/ad7893/products/product.html
footprint R-8_N (SOIC, 8-Leads, Body 4.9x3.9mm, Pitch 1.27mm, IPC Medium Density)
footprint R-8_L (SOIC, 8-Leads, Body 4.9x3.9mm, Pitch 1.27mm, IPC High Density)
footprint R-8_M (SOIC, 8-Leads, Body 4.9x3.9mm, Pitch 1.27mm, IPC Low Density)
pins: 1 REF IN (in) "Voltage Reference Input. An external reference source should be connected to this pin to provide the reference voltage for the AD7893’s conversion process. The REF IN input is buffered on-chip. The nominal reference voltage (See Datasheet)", 2 VIN (in) "Analog Input Channel. The analog input range is +/-10 V (AD7893-10), +/-2.5 V (AD7893-3), 0 V to +5 V (AD7893-5) and 0 V to +2.5 V (AD7893-2).", 3 AGND (power) "Analog Ground. Ground reference for track/hold, comparator and DAC", 4 SCLK (in) "Serial Clock Input. An external serial clock is applied to this input to obtain serial data from the AD7893. A new serial data bit is clocked out on the rising edge of this serial clock, and data is valid on the falling edge.(See Datasheet)", 5 SDATA (hiz) "Serial Data Output. Serial data from the AD7893 is provided at this output. The serial data is clocked out by the rising edge of SCLK and is valid on the falling edge of SCLK. Sixteen bits of serial data are provided with (See Datasheet)", 6 DGND (power) "Digital Ground. Ground reference for digital circuitry.", 7 ~{CONVST} (in) "Convert Start. Edge-triggered logic input. On the falling edge of this input, the serial clock counter is reset to zero. On the rising edge of this input, the track/hold goes into its hold mode and conversion is initiated.", 8 VDD (power) "Positive supply voltage, +5 V +/- 5%"

## AD7893BRZ-10REEL7
designator U?
Single 12-Bit Analog-to-Digital Converter with Serial Interface, 6 us, LC2MOS, 117KSPS, 0 to +70 degC, R-8, Pb-Free, Reel; Generic Part Number: AD7893; Manufacturer: Analog Devices; PartNumber: AD7893BRZ-10REEL7; Resolution (Bits): 12; Channels: 1; Throughput Rate (SPS): 117K; Interface: Ser; DatasheetVersion: Rev.E; PackageVersion: 060506-A; PackageReference: R-8; PackageDescription: 8-Lead Standard Small Outline Package [SOIC_N] Narrow Body; Supplier 1: Digi-Key; Supplier Part Number 1: AD7893BRZ-10REEL7-ND; Supplier 2: Mouser; Supplier Part Number 2: 584-AD7893BRZ-10R7; RoHS: Y; Packing: Reel; Mounting Technology: Surface Mount; Code_JEDEC: MS-012-AA; Code_IPC: SOIC127P600-8; ComponentLink1Description: Manufacturer URL; ComponentLink1URL: http://www.analog.com/en/index.html; ComponentLink2Description: Datasheet; ComponentLink2URL: http://www.analog.com/static/imported-files/data_sheets/AD7893.pdf; ComponentLink3Description: Package Specification; ComponentLink3URL: http://www.analog.com/static/imported-files/packages/PKG_PDF/SOIC_Narrow%20(R)/R_8.pdf; ComponentLink4Description: Product URL; ComponentLink4URL: http://www.analog.com/en/analog-to-digital-converters/ad-converters/ad7893/products/product.html
footprint R-8_N (SOIC, 8-Leads, Body 4.9x3.9mm, Pitch 1.27mm, IPC Medium Density)
footprint R-8_L (SOIC, 8-Leads, Body 4.9x3.9mm, Pitch 1.27mm, IPC High Density)
footprint R-8_M (SOIC, 8-Leads, Body 4.9x3.9mm, Pitch 1.27mm, IPC Low Density)
pins: 1 REF IN (in) "Voltage Reference Input. An external reference source should be connected to this pin to provide the reference voltage for the AD7893’s conversion process. The REF IN input is buffered on-chip. The nominal reference voltage (See Datasheet)", 2 VIN (in) "Analog Input Channel. The analog input range is +/-10 V (AD7893-10), +/-2.5 V (AD7893-3), 0 V to +5 V (AD7893-5) and 0 V to +2.5 V (AD7893-2).", 3 AGND (power) "Analog Ground. Ground reference for track/hold, comparator and DAC", 4 SCLK (in) "Serial Clock Input. An external serial clock is applied to this input to obtain serial data from the AD7893. A new serial data bit is clocked out on the rising edge of this serial clock, and data is valid on the falling edge.(See Datasheet)", 5 SDATA (hiz) "Serial Data Output. Serial data from the AD7893 is provided at this output. The serial data is clocked out by the rising edge of SCLK and is valid on the falling edge of SCLK. Sixteen bits of serial data are provided with (See Datasheet)", 6 DGND (power) "Digital Ground. Ground reference for digital circuitry.", 7 ~{CONVST} (in) "Convert Start. Edge-triggered logic input. On the falling edge of this input, the serial clock counter is reset to zero. On the rising edge of this input, the track/hold goes into its hold mode and conversion is initiated.", 8 VDD (power) "Positive supply voltage, +5 V +/- 5%"

## AD7893SQ-5
designator U?
Single 12-Bit Analog-to-Digital Converter with Serial Interface, 6 us, LC2MOS, 117KSPS, -55 to +125 degC, Q-8, Tube; Generic Part Number: AD7893; Manufacturer: Analog Devices; PartNumber: AD7893SQ-5; Resolution (Bits): 12; Channels: 1; Throughput Rate (SPS): 117K; Interface: Ser; DatasheetVersion: Rev.E; PackageVersion: 2005; PackageReference: Q-8; PackageDescription: 8-Lead Ceramic Dual In-Line Package [CERDIP]; Supplier 1: Digi-Key; Supplier Part Number 1: AD7893SQ-5-ND; Supplier 2: Newark; Supplier Part Number 2: 09B6272; Supplier 3: Mouser; Supplier Part Number 3: 584-AD7893SQ-5; RoHS: N; Packing: Tube; Mounting Technology: Through-hole; ComponentLink1Description: Manufacturer URL; ComponentLink1URL: http://www.analog.com/en/index.html; ComponentLink2Description: Datasheet; ComponentLink2URL: http://www.analog.com/static/imported-files/data_sheets/AD7893.pdf; ComponentLink3Description: Package Specification; ComponentLink3URL: http://www.analog.com/static/imported-files/packages/3925655241313314758Q_8.pdf; ComponentLink4Description: Product URL; ComponentLink4URL: http://www.analog.com/en/analog-to-digital-converters/ad-converters/ad7893/products/product.html
footprint Q-8 (DIP, 8-Leads, Row Spacing 7.62mm, Pitch 2.54mm, Body 9.9x6.7mm)
pins: 1 REF IN (in) "Voltage Reference Input. An external reference source should be connected to this pin to provide the reference voltage for the AD7893’s conversion process. The REF IN input is buffered on-chip. The nominal reference voltage (See Datasheet)", 2 VIN (in) "Analog Input Channel. The analog input range is +/-10 V (AD7893-10), +/-2.5 V (AD7893-3), 0 V to +5 V (AD7893-5) and 0 V to +2.5 V (AD7893-2).", 3 AGND (power) "Analog Ground. Ground reference for track/hold, comparator and DAC", 4 SCLK (in) "Serial Clock Input. An external serial clock is applied to this input to obtain serial data from the AD7893. A new serial data bit is clocked out on the rising edge of this serial clock, and data is valid on the falling edge.(See Datasheet)", 5 SDATA (hiz) "Serial Data Output. Serial data from the AD7893 is provided at this output. The serial data is clocked out by the rising edge of SCLK and is valid on the falling edge of SCLK. Sixteen bits of serial data are provided with (See Datasheet)", 6 DGND (power) "Digital Ground. Ground reference for digital circuitry.", 7 ~{CONVST} (in) "Convert Start. Edge-triggered logic input. On the falling edge of this input, the serial clock counter is reset to zero. On the rising edge of this input, the track/hold goes into its hold mode and conversion is initiated.", 8 VDD (power) "Positive supply voltage, +5 V +/- 5%."

## AD7893SQ-10
designator U?
Single 12-Bit Analog-to-Digital Converter with Serial Interface, 6 us, LC2MOS, 117KSPS, -55 to +125 degC, Q-8, Tube; Generic Part Number: AD7893; Manufacturer: Analog Devices; PartNumber: AD7893SQ-10; Resolution (Bits): 12; Channels: 1; Throughput Rate (SPS): 117K; Interface: Ser; DatasheetVersion: Rev.E; PackageVersion: 2005; PackageReference: Q-8; PackageDescription: 8-Lead Ceramic Dual In-Line Package [CERDIP]; Supplier 1: Digi-Key; Supplier Part Number 1: AD7893SQ-10-ND; Supplier 2: Newark; Supplier Part Number 2: 09B6270; Supplier 3: Mouser; Supplier Part Number 3: 584-AD7893SQ-10; RoHS: N; Packing: Tube; Mounting Technology: Through-hole; ComponentLink1Description: Manufacturer URL; ComponentLink1URL: http://www.analog.com/en/index.html; ComponentLink2Description: Datasheet; ComponentLink2URL: http://www.analog.com/static/imported-files/data_sheets/AD7893.pdf; ComponentLink3Description: Package Specification; ComponentLink3URL: http://www.analog.com/static/imported-files/packages/3925655241313314758Q_8.pdf; ComponentLink4Description: Product URL; ComponentLink4URL: http://www.analog.com/en/analog-to-digital-converters/ad-converters/ad7893/products/product.html
footprint Q-8 (DIP, 8-Leads, Row Spacing 7.62mm, Pitch 2.54mm, Body 9.9x6.7mm)
pins: 1 REF IN (in) "Voltage Reference Input. An external reference source should be connected to this pin to provide the reference voltage for the AD7893’s conversion process. The REF IN input is buffered on-chip. The nominal reference voltage (See Datasheet)", 2 VIN (in) "Analog Input Channel. The analog input range is +/-10 V (AD7893-10), +/-2.5 V (AD7893-3), 0 V to +5 V (AD7893-5) and 0 V to +2.5 V (AD7893-2).", 3 AGND (power) "Analog Ground. Ground reference for track/hold, comparator and DAC", 4 SCLK (in) "Serial Clock Input. An external serial clock is applied to this input to obtain serial data from the AD7893. A new serial data bit is clocked out on the rising edge of this serial clock, and data is valid on the falling edge.(See Datasheet)", 5 SDATA (hiz) "Serial Data Output. Serial data from the AD7893 is provided at this output. The serial data is clocked out by the rising edge of SCLK and is valid on the falling edge of SCLK. Sixteen bits of serial data are provided with (See Datasheet)", 6 DGND (power) "Digital Ground. Ground reference for digital circuitry.", 7 ~{CONVST} (in) "Convert Start. Edge-triggered logic input. On the falling edge of this input, the serial clock counter is reset to zero. On the rising edge of this input, the track/hold goes into its hold mode and conversion is initiated.", 8 VDD (power) "Positive supply voltage, +5 V +/- 5%."

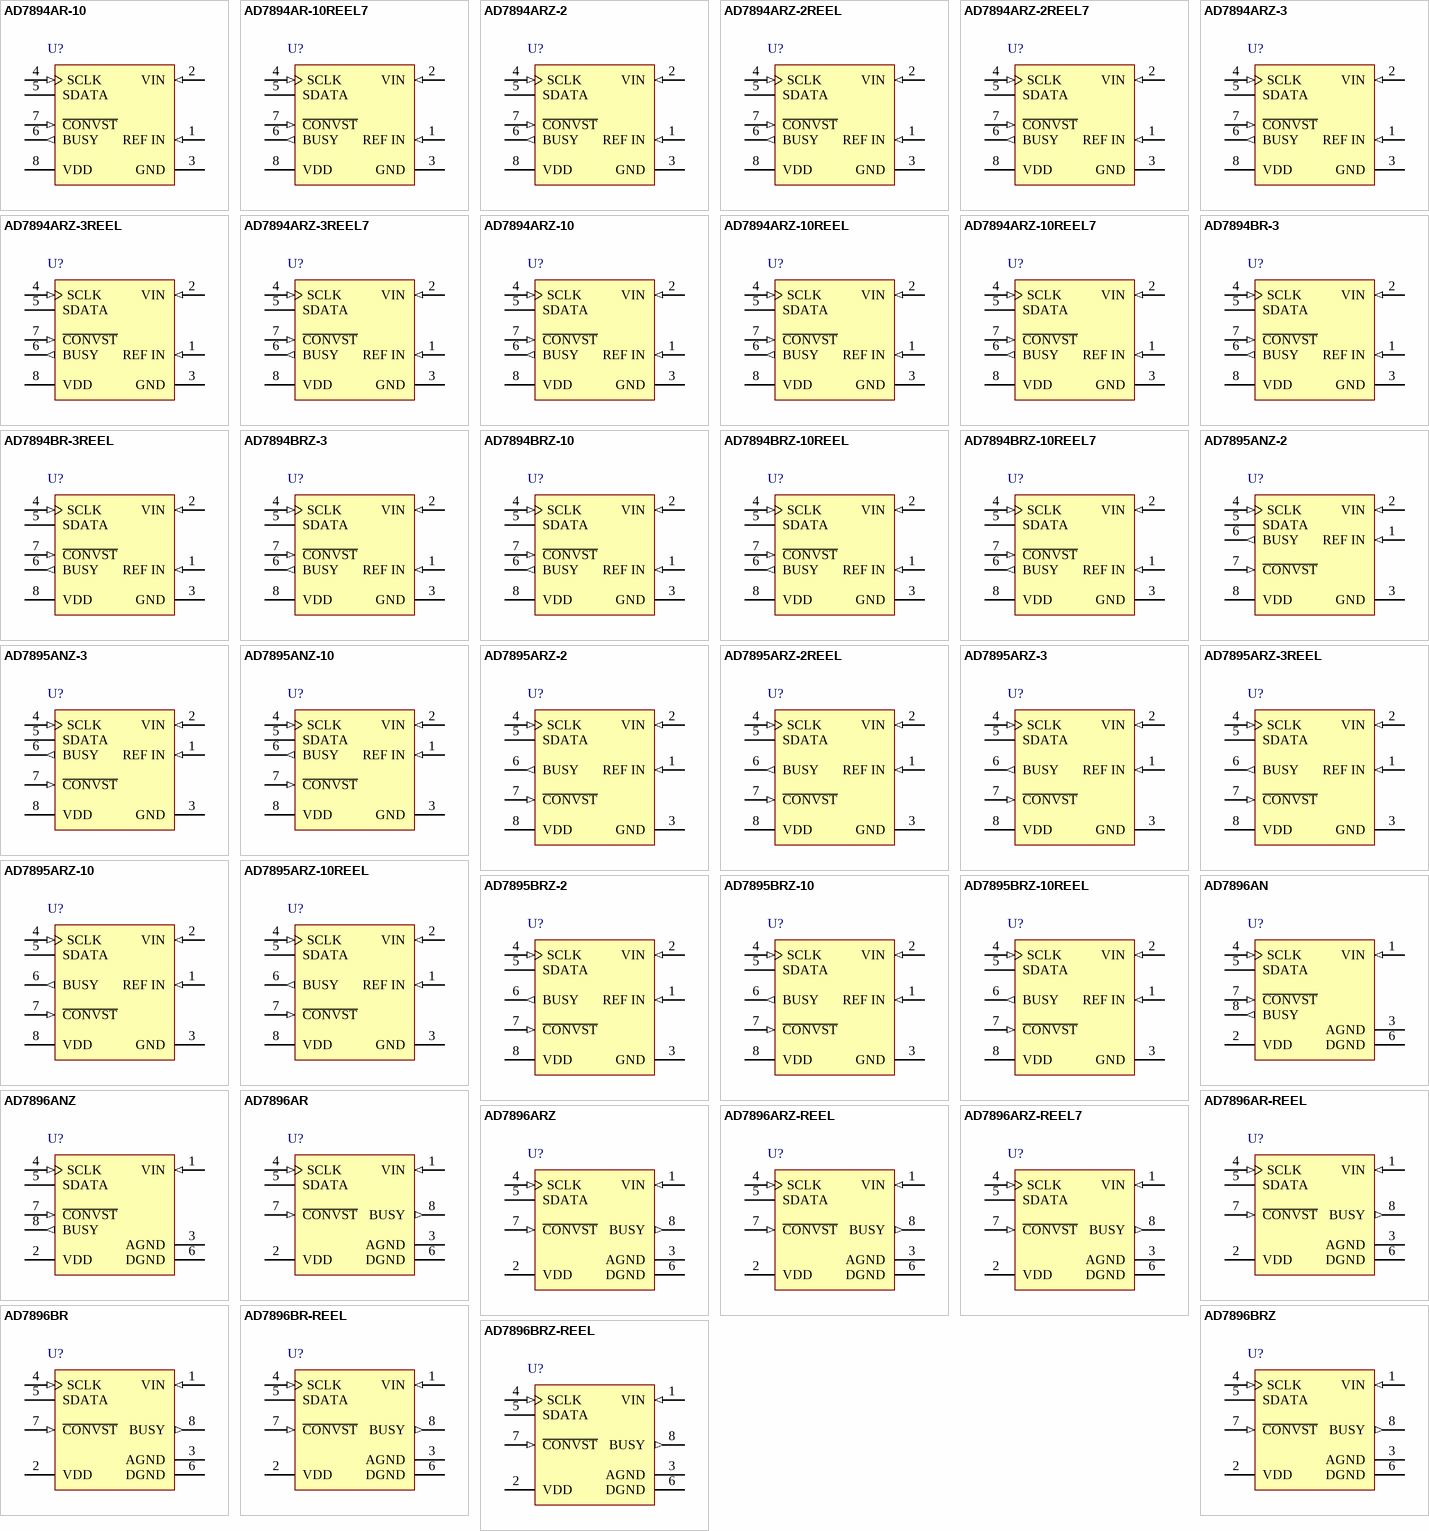
[diagram p86: symbols AD7894AR-10 to AD7896BRZ-REEL]

## AD7894AR-10
designator U?
Single 14-Bit Analog-to-Digital Converter with Serial Interface, 5 us, 200KSPS, -40 to +85 degC, R-8, Tube; Generic Part Number: AD7894; Manufacturer: Analog Devices; PartNumber: AD7894AR-10; Resolution (Bits): 14; Channels: 1; Throughput Rate (SPS): 200K; Interface: Ser; DatasheetVersion: Rev.0; PackageVersion: 060506-A; PackageReference: R-8; PackageDescription: 8-Lead Standard Small Outline Package [SOIC_N] Narrow Body; Supplier 1: Digi-Key; Supplier Part Number 1: AD7894AR-10-ND; Supplier 2: Newark; Supplier Part Number 2: 09B6273; Supplier 3: Mouser; Supplier Part Number 3: 584-AD7894AR-10; RoHS: N; Packing: Tube; Mounting Technology: Surface Mount; Code_JEDEC: MS-012-AA; Code_IPC: SOIC127P600-8; ComponentLink1Description: Manufacturer URL; ComponentLink1URL: http://www.analog.com/en/index.html; ComponentLink2Description: Datasheet; ComponentLink2URL: http://www.analog.com/static/imported-files/data_sheets/AD7894.pdf; ComponentLink3Description: Package Specification; ComponentLink3URL: http://www.analog.com/static/imported-files/packages/PKG_PDF/SOIC_Narrow%20(R)/R_8.pdf; ComponentLink4Description: Product URL; ComponentLink4URL: http://www.analog.com/en/analog-to-digital-converters/ad-converters/ad7894/products/product.html
footprint R-8_N (SOIC, 8-Leads, Body 4.9x3.9mm, Pitch 1.27mm, IPC Medium Density)
footprint R-8_L (SOIC, 8-Leads, Body 4.9x3.9mm, Pitch 1.27mm, IPC High Density)
footprint R-8_M (SOIC, 8-Leads, Body 4.9x3.9mm, Pitch 1.27mm, IPC Low Density)
pins: 1 REF IN (in) "Voltage Reference Input. An external reference source should be connected to this pin to provide the reference voltage for the AD7894’s conversion process. The REF IN input is buffered on-chip. The nominal reference voltage (See Datasheet)", 2 VIN (in) "Analog Input Channel. The analog input range is +/-10 V (AD7894-10), +/-2.5 V (AD7894-3) and 0 V to +2.5ÊV (AD7894-2).", 3 GND (power) "Analog Ground. Ground reference for track/hold, comparator, digital circuitry and DAC.", 4 SCLK (in) "SCLK Serial Clock Input. An external serial clock is applied to this input to obtain serial data from the AD7894.A new serial data bit is clocked out on the falling edge of this serial clock. Data is guaranteed valid for 10 (See Datasheet)", 5 SDATA (hiz) "Serial Data Output. Serial data from the AD7894 is provided at this output. The serial data is clocked out by the falling edge of SCLK, but the data can also be read on the falling edge of SCLK. This is possible because data (See Datasheet)", 6 BUSY (out) "The BUSY pin is used to indicate when the part is doing a conversion. The BUSY pin will go high on the falling edge of CONVST and will return low when the conversion is complete.", 7 ~{CONVST} (in) "Conversion Start. Edge-triggered logic input. On the falling edge of this input, the track/hold goes into its 7 CONVST Conversion Start. Edge-triggered logic input. On the falling edge of this input, the track/hold goes into (See Datasheet)", 8 VDD (power) "Positive supply voltage, +5 V +/- 5%."